# EAGLE library part XC9572XL-TQ100 (library userlib)
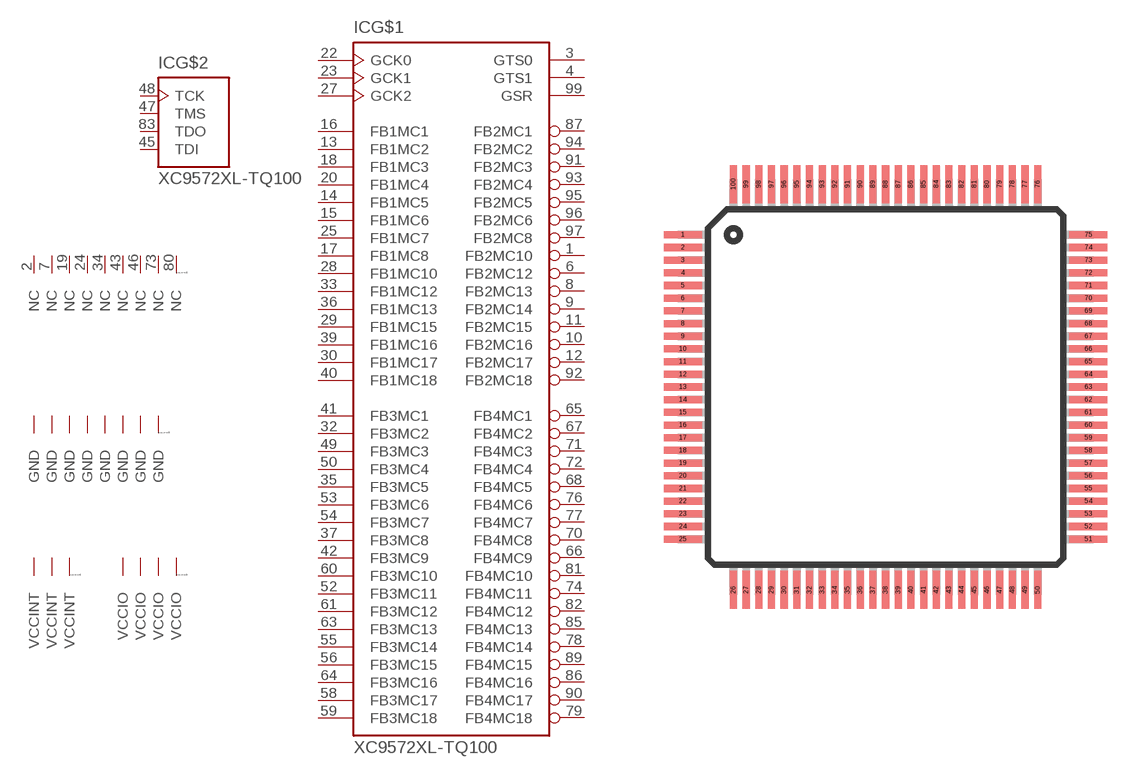
[diagram p3: symbol with the pads of TQ100; footprint TQ100]

Designator prefix IC; gates G$1=XC9572 G$2=JTAG G$4=VCCINT3X G$5=VCCIO4X G$3=GND8X G$6=NC9X

## XC9572XL-TQ100  [TQ100]
1  G$1:FB2MC10
2  G$6:NC  nc
3  G$1:GTS0  in
4  G$1:GTS1  in
5  G$4:VCCINT  pwr
6  G$1:FB2MC12
7  G$6:NC  nc
8  G$1:FB2MC13
9  G$1:FB2MC14
10  G$1:FB2MC16
11  G$1:FB2MC15
12  G$1:FB2MC17
13  G$1:FB1MC2
14  G$1:FB1MC5
15  G$1:FB1MC6
16  G$1:FB1MC1
17  G$1:FB1MC8
18  G$1:FB1MC3
19  G$6:NC  nc
20  G$1:FB1MC4
21  G$3:GND  pwr
22  G$1:GCK0  in
23  G$1:GCK1  in
24  G$6:NC  nc
25  G$1:FB1MC7
26  G$5:VCCIO  pwr
27  G$1:GCK2  in
28  G$1:FB1MC10
29  G$1:FB1MC15
30  G$1:FB1MC17
31  G$3:GND  pwr
32  G$1:FB3MC2
33  G$1:FB1MC12
34  G$6:NC  nc
35  G$1:FB3MC5
36  G$1:FB1MC13
37  G$1:FB3MC8
38  G$5:VCCIO  pwr
39  G$1:FB1MC16
40  G$1:FB1MC18
41  G$1:FB3MC1
42  G$1:FB3MC9
43  G$6:NC  nc
44  G$3:GND  pwr
45  G$2:TDI  in
46  G$6:NC  nc
47  G$2:TMS  in
48  G$2:TCK  in
49  G$1:FB3MC3
50  G$1:FB3MC4
51  G$5:VCCIO  pwr
52  G$1:FB3MC11
53  G$1:FB3MC6
54  G$1:FB3MC7
55  G$1:FB3MC14
56  G$1:FB3MC15
57  G$4:VCCINT  pwr
58  G$1:FB3MC17
59  G$1:FB3MC18
60  G$1:FB3MC10
61  G$1:FB3MC12
62  G$3:GND  pwr
63  G$1:FB3MC13
64  G$1:FB3MC16
65  G$1:FB4MC1
66  G$1:FB4MC9
67  G$1:FB4MC2
68  G$1:FB4MC5
69  G$3:GND  pwr
70  G$1:FB4MC8
71  G$1:FB4MC3
72  G$1:FB4MC4
73  G$6:NC  nc
74  G$1:FB4MC11
75  G$3:GND  pwr
76  G$1:FB4MC6
77  G$1:FB4MC7
78  G$1:FB4MC14
79  G$1:FB4MC18
80  G$6:NC  nc
81  G$1:FB4MC10
82  G$1:FB4MC12
83  G$2:TDO  out
84  G$3:GND  pwr
85  G$1:FB4MC13
86  G$1:FB4MC16
87  G$1:FB2MC1
88  G$5:VCCIO  pwr
89  G$1:FB4MC15
90  G$1:FB4MC17
91  G$1:FB2MC3
92  G$1:FB2MC18
93  G$1:FB2MC4
94  G$1:FB2MC2
95  G$1:FB2MC5
96  G$1:FB2MC6
97  G$1:FB2MC8
98  G$4:VCCINT  pwr
99  G$1:GSR  in
100  G$3:GND  pwr

## Footprint TQ100 (pad centres in mm)
smd 1.5 x 0.28: 1 -8,6; 2 -8,5.5; 3 -8,5; 4 -8,4.5; 5 -8,4; 6 -8,3.5; 7 -8,3; 8 -8,2.5; 9 -8,2; 10 -8,1.5; 11 -8,1; 12 -8,0.5; 13 -8,0; 14 -8,-0.5; 15 -8,-1; 16 -8,-1.5; 17 -8,-2; 18 -8,-2.5; 19 -8,-3; 20 -8,-3.5; 21 -8,-4; 22 -8,-4.5; 23 -8,-5; 24 -8,-5.5; 25 -8,-6; 51 8,-6; 52 8,-5.5; 53 8,-5; 54 8,-4.5; 55 8,-4; 56 8,-3.5; 57 8,-3; 58 8,-2.5; 59 8,-2; 60 8,-1.5; 61 8,-1; 62 8,-0.5; 63 8,0; 64 8,0.5; 65 8,1; 66 8,1.5; 67 8,2; 68 8,2.5; 69 8,3; 70 8,3.5; 71 8,4; 72 8,4.5; 73 8,5; 74 8,5.5; 75 8,6
smd 0.28 x 1.5: 26 -6,-8; 27 -5.5,-8; 28 -5,-8; 29 -4.5,-8; 30 -4,-8; 31 -3.5,-8; 32 -3,-8; 33 -2.5,-8; 34 -2,-8; 35 -1.5,-8; 36 -1,-8; 37 -0.5,-8; 38 0,-8; 39 0.5,-8; 40 1,-8; 41 1.5,-8; 42 2,-8; 43 2.5,-8; 44 3,-8; 45 3.5,-8; 46 4,-8; 47 4.5,-8; 48 5,-8; 49 5.5,-8; 50 6,-8; 76 6,8; 77 5.5,8; 78 5,8; 79 4.5,8; 80 4,8; 81 3.5,8; 82 3,8; 83 2.5,8; 84 2,8; 85 1.5,8; 86 1,8; 87 0.5,8; 88 0,8; 89 -0.5,8; 90 -1,8; 91 -1.5,8; 92 -2,8; 93 -2.5,8; 94 -3,8; 95 -3.5,8; 96 -4,8; 97 -4.5,8; 98 -5,8; 99 -5.5,8; 100 -6,8